# Altium schematic symbol library Other.SchLib: 179 symbols (part 3 of 11)
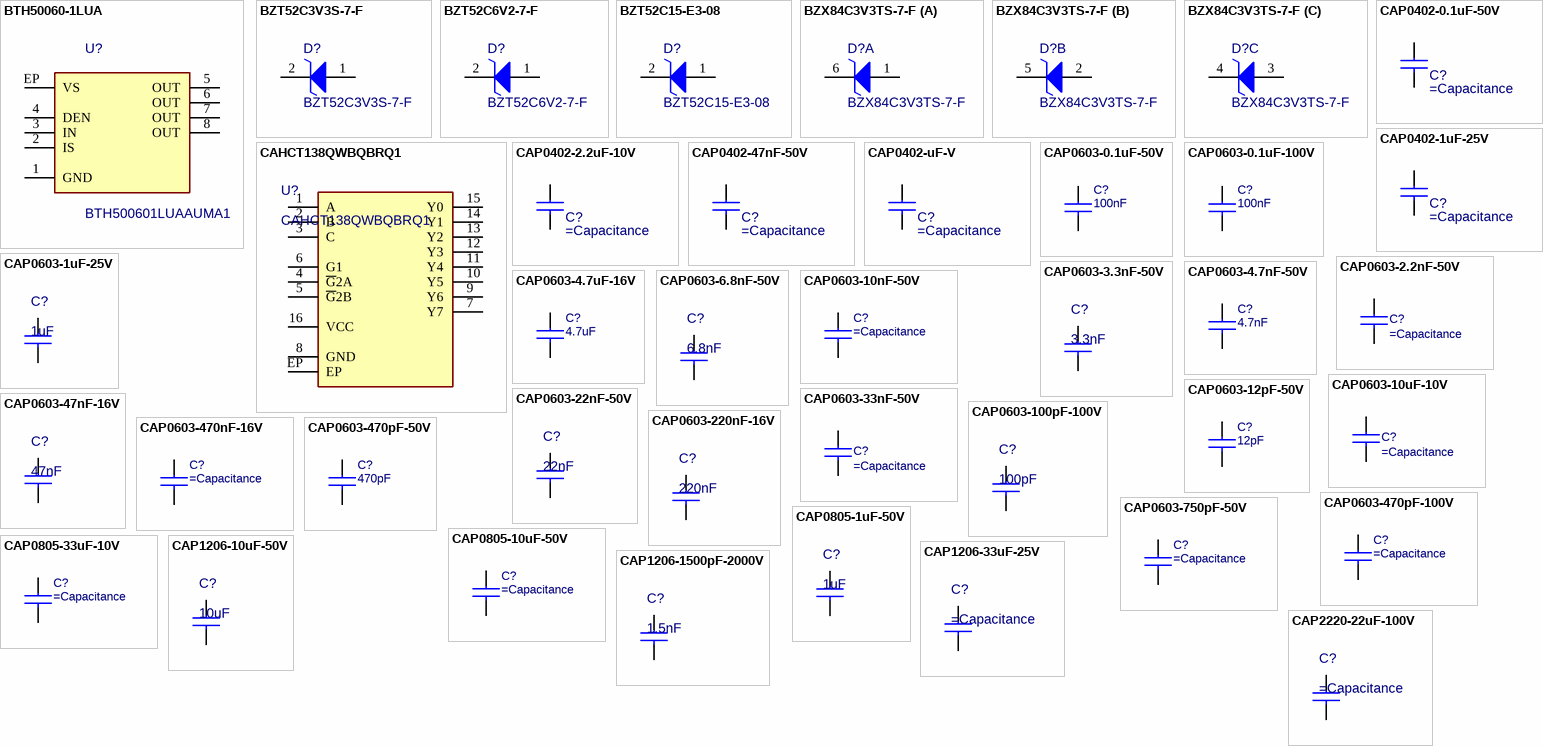
[diagram p10: symbols BTH50060-1LUA to CAP2220-22uF-100V]

## CAP0603-12pF-50V
designator C?, comment 12pF
CAP CER 12PF 50V C0G/NP0 0603; Manufacturer: Walsin Technologies; Manufacturer Part Number: 0603N120J500CT; Dielectric: C0G; Tolerance: 5%; ComponentLink1URL: https://datasheet.ciiva.com/24217/cga3e2x7r1h104k080ad-266045-24217490.pdf; ComponentLink1Description: https://datasheet.ciiva.com/24217/cga3e2x7r1h104k080ad-266045-24217490.pdf; ComponentLink2URL: http://www.mouser.com/ds/2/281/c02e-2905.pdf?src-supplier=Mouser; ComponentLink2Description: http://www.mouser.com/ds/2/281/c02e-2905.pdf?src-supplier=Mouser; ComponentLink3URL: http://search.murata.co.jp/Ceramy/image/img/A01X/G101/ENG/GRM033R71H101MA12-01.pdf?src-supplier=Digi-Key; ComponentLink3Description: http://search.murata.co.jp/Ceramy/image/img/A01X/G101/ENG/GRM033R71H101MA12-01.pdf?src-supplier=Digi-Key; ComponentLink4URL: https://search.murata.co.jp/Ceramy/image/img/A01X/G101/ENG/GRM033R71H101MA12-01.pdf?src-supplier=Digi-Key; ComponentLink4Description: https://search.murata.co.jp/Ceramy/image/img/A01X/G101/ENG/GRM033R71H101MA12-01.pdf?src-supplier=Digi-Key; ComponentLink5URL: http://www.mouser.com/ds/2/212/KEM_C1003_C0G_SMD-1101588.pdf?src-supplier=Mouser; ComponentLink5Description: http://www.mouser.com/ds/2/212/KEM_C1003_C0G_SMD-1101588.pdf?src-supplier=Mouser; ComponentLink6URL: https://search.kemet.com/component-edge/download/datasheet/C0603C101M5GACTU.pdf?src-supplier=Digi-Key; ComponentLink6Description: https://search.kemet.com/component-edge/download/datasheet/C0603C101M5GACTU.pdf?src-supplier=Digi-Key; ComponentLink7URL: https://api.kemet.com/component-edge/download/datasheet/C0603C101M5GACTU.pdf?src-supplier=Digi-Key; ComponentLink7Description: https://api.kemet.com/component-edge/download/datasheet/C0603C101M5GACTU.pdf?src-supplier=Digi-Key; Supplier 1: Digi-Key; RoHS: Yes; Category: Ceramic Capacitors; Stock 1: 36453; Pricing 1: 1=0,10000, 10=0,02800, 100=0,01240, 500=0,00886, 1000=0,00696 (USD); Case/Package: 0603; Case Code (Metric): 1608; Case Code (Imperial): 0603; Min Operating Temperature: -55°C; Max Operating Temperature: 125°C; Voltage Rating (DC): 50V; Packaging: Tape and Reel; Capacitance: 12pF; Voltage Rating: 50V; Length: 1.6mm; Depth: 0.8mm; Radiation Hardening: No; REACH SVHC: Unknown; ComponentLink8URL: https://datasheet.ciiva.com/26831/getdatasheetpartid-744794-26831324.pdf?src-supplier=Verical; ComponentLink8Description: https://datasheet.ciiva.com/26831/getdatasheetpartid-744794-26831324.pdf?src-supplier=Verical; Supplier Part Number 1: 1292-1480-1-ND
footprint C0603 (Chip Capacitor, 2-Leads, Body 1.75x0.95mm)
pins: 1, 2

## CAP0603-22nF-50V
designator C?, comment 22nF
CAP CER 0.022UF 50V X7R 0603; Manufacturer: TDK; Manufacturer Part Number: CGA3E2X7R1H223M080AA; Tolerance: 20%; Supplier 1: Digi-Key; RoHS: Yes; Category: Ceramic Capacitors; Stock 1: 8000; Pricing 1: 1=0.10000, 10=0.06000, 50=0.03300, 100=0.02700, 500=0.01924, 1000=0.01512 (USD); Mount: Surface Mount; Case/Package: 0603; Case Code (Metric): 1608; Case Code (Imperial): 0603; Weight: 7.1E-05oz; Min Operating Temperature: -55°C; Max Operating Temperature: 125°C; Package Quantity: 4000; Packaging: Tape and Reel; Capacitance: 22nF; Voltage Rating: 50V; Dielectric: X7R; Voltage Rating (DC): 50V; Series: CGA; Length: 0.063inch; Width: 0.8mm; Height: 0.8mm; Thickness: 0.035inch; Ratings: AEC-Q200; RoHS Compliant: Yes; ComponentLink1URL: http://www.mouser.com/ds/2/400/lcc_automotive_general_en-843974.pdf?src-supplier=Mouser; ComponentLink1Description: http://www.mouser.com/ds/2/400/lcc_automotive_general_en-843974.pdf?src-supplier=Mouser; ComponentLink2URL: https://product.tdk.com/info/en/catalog/datasheets/mlcc_automotive_general_en.pdf?src-supplier=Digi-Key; ComponentLink2Description: https://product.tdk.com/info/en/catalog/datasheets/mlcc_automotive_general_en.pdf?src-supplier=Digi-Key; ComponentLink3URL: https://product.tdk.com/info/en/documents/chara_sheet/CGA3E2X7R1H223M080AA.pdf?src-supplier=Digi-Key; ComponentLink3Description: https://product.tdk.com/info/en/documents/chara_sheet/CGA3E2X7R1H223M080AA.pdf?src-supplier=Digi-Key; ComponentLink4URL: http://product.tdk.com/en/catalog/datasheets/mlcc_automotive_general_en.pdf?src-supplier=Avnet; ComponentLink4Description: http://product.tdk.com/en/catalog/datasheets/mlcc_automotive_general_en.pdf?src-supplier=Avnet; Supplier Part Number 1: 445-12557-1-ND
footprint C0603 (Chip Capacitor, 2-Leads, Body 1.75x0.95mm)
pins: 1, 2

## CAP0603-33nF-50V
designator C?
CAP CER 0.033UF 50V X7R 0603; Manufacturer: Yageo; Manufacturer Part Number: CC0603KPX7R9BB333; Capacitance: 33nF; Tolerance: 10%; Value: 33nF; Supplier: Digikey; Supplier Part Number: 13-CC0603KPX7R9BB333CT-ND; RoHS: Yes; Category: Ceramic Capacitors; Stock: 14880; Pricing: 1=0,1, 10=0,037, 100=0,0211, 1000=0,01333, 2500=0,01141, 5000=0,01026 (USD); Mounting Technology: Surface Mount; Case/Package: 0603; Min Operating Temperature: -55°C; Max Operating Temperature: 125°C; Dielectric: X7R; Packaging: Tape and Reel; Voltage Rating (DC): 50V; Construction: Flat; Length: 1.6mm; Height: 0.8mm; Depth: 0.8mm; Radiation Hardening: No; RoHS Compliant: Yes; Lead Free: Lead Free; Halogen Free: Halogen Free; ComponentLink1URL: https://datasheet.ciiva.com/26862/getdatasheetpartid-403558-26862803.pdf?src-supplier=Verical; ComponentLink1Description: https://datasheet.ciiva.com/26862/getdatasheetpartid-403558-26862803.pdf?src-supplier=Verical; Supplier 1: Digikey; Supplier Part Number 1: 13-CC0603KPX7R9BB333CT-ND
footprint C0603 (Footprint not found)
pins: 1, 2

## CAP0603-47nF-16V
designator C?, comment 47nF
CAP CER 0.047UF 16V X7R 0603; Manufacturer: Taiyo Yuden; Manufacturer Part Number: EMK107B7473KA-T; Tolerance: 10%; Supplier 1: Digi-Key; RoHS: Yes; Category: Ceramic Capacitors; Stock 1: 3295; Pricing 1: 1=0.10000, 10=0.06300, 50=0.03440, 100=0.02820, 500=0.02012, 1000=0.01581 (USD); Mount: Surface Mount; Case/Package: 0603; Number of Pins: 2; Case Code (Imperial): 0603; Case Code (Metric): 1608; Min Operating Temperature: -55°C; Max Operating Temperature: 125°C; Capacitance: 47nF; Voltage Rating: 16V; Packaging: Tape and Reel; Package Quantity: 1; Dielectric: X7R; Termination: SMD/SMT; Voltage Rating (DC): 16V; Series: M; Construction: Flat; Length: 1.6mm; Width: 0.031inch; Height: 0.8mm; Thickness: 0.035inch; Depth: 0.8mm; Radiation Hardening: No; REACH SVHC: No SVHC; Lead Free: Lead Free; RoHS Compliant: Yes; ComponentLink1URL: https://datasheet.ciiva.com/26871/getdatasheetpartid-637536-26871316.pdf?src-supplier=Verical; ComponentLink1Description: https://datasheet.ciiva.com/26871/getdatasheetpartid-637536-26871316.pdf?src-supplier=Verical; ComponentLink2URL: https://datasheet.ciiva.com/132/mlcc-all-e-132568.pdf?src-supplier=Digi-Key; ComponentLink2Description: https://datasheet.ciiva.com/132/mlcc-all-e-132568.pdf?src-supplier=Digi-Key; ComponentLink3URL: https://datasheet.ciiva.com/132/mlcc-all-e-132569.pdf?src-supplier=Digi-Key; ComponentLink3Description: https://datasheet.ciiva.com/132/mlcc-all-e-132569.pdf?src-supplier=Digi-Key; ComponentLink4URL: https://datasheet.ciiva.com/132/mlcc-all-e-132570.pdf?src-supplier=Digi-Key; ComponentLink4Description: https://datasheet.ciiva.com/132/mlcc-all-e-132570.pdf?src-supplier=Digi-Key; ComponentLink5URL: https://datasheet.ciiva.com/15920/cmultilayerceramiccapacitor-15920477.pdf?src-supplier=Onlinecomponents.com; ComponentLink5Description: https://datasheet.ciiva.com/15920/cmultilayerceramiccapacitor-15920477.pdf?src-supplier=Onlinecomponents.com; ComponentLink6URL: https://datasheet.ciiva.com/7975/746258-7975614.pdf?src-supplier=Element14; ComponentLink6Description: https://datasheet.ciiva.com/7975/746258-7975614.pdf?src-supplier=Element14; ComponentLink7URL: https://datasheet.ciiva.com/30071/cmultilayerceramiccapacitor-30071503.pdf?src-supplier=Onlinecomponents.com; ComponentLink7Description: https://datasheet.ciiva.com/30071/cmultilayerceramiccapacitor-30071503.pdf?src-supplier=Onlinecomponents.com; Supplier Part Number 1: 587-1239-1-ND
footprint C0603 (Chip Capacitor, 2-Leads, Body 1.75x0.95mm)
pins: 1, 2

## CAP0603-100pF-100V
designator C?, comment 100pF
CAP CER 100PF 100V X7R 0603; Manufacturer: Wurth Electronics; Manufacturer Part Number: 885012206102; Tolerance: 10%; Supplier 1: Digi-Key; RoHS: No; Category: Ceramic Capacitors; Stock 1: 2629; Pricing 1: 1=0.10000, 10=0.03700, 100=0.03280, 500=0.02898 (USD); Mount: Surface Mount; Case/Package: 0603; Case Code (Imperial): 0603; Case Code (Metric): 1608; Min Operating Temperature: -55°C; Max Operating Temperature: 125°C; Packaging: Tape and Reel; Capacitance: 100pF; Voltage Rating: 100V; ComponentLink1URL: http://www.farnell.com/datasheets/2546835.pdf?src-supplier=Farnell; ComponentLink1Description: http://www.farnell.com/datasheets/2546835.pdf?src-supplier=Farnell; ComponentLink2URL: https://katalog.we-online.de/pbs/datasheet/885012206102.pdf?src-supplier=Digi-Key; ComponentLink2Description: https://katalog.we-online.de/pbs/datasheet/885012206102.pdf?src-supplier=Digi-Key; Supplier Part Number 1: 732-12235-1-ND
footprint C0603 (Chip Capacitor, 2-Leads, Body 1.75x0.95mm)
pins: 1, 2

## CAP0603-220nF-16V
designator C?, comment 220nF
CAP CER 0.22UF 16V X7R 0603; Manufacturer: Yageo; Manufacturer Part Number: CC0603KRX7R7BB224; Tolerance: 10%; Dissipation Factor: 5%; Insulation Resistance: 10GR; Supplier 1: Digi-Key; RoHS: Yes; Category: Ceramic Capacitors; Stock 1: 338000; Pricing 1: 1=0.10000, 10=0.07000, 50=0.03800, 100=0.03100, 500=0.02214, 1000=0.01739 (USD); Mount: Surface Mount; Case/Package: 0603; Case Code (Metric): 1608; Case Code (Imperial): 0603; Min Operating Temperature: -55°C; Max Operating Temperature: 125°C; Capacitance: 220nF; Dielectric: X7R; Package Quantity: 1; Voltage Rating: 16V; Packaging: Tape and Reel; Voltage: 16V; Voltage Rating (DC): 16V; Series: CC; Construction: Flat; Length: 1.6mm; Width: 0.031inch; Height: 0.8mm; Thickness: 0.035inch; Depth: 0.8mm; Radiation Hardening: No; REACH SVHC: No SVHC; Lead Free: Lead Free; Halogen Free: Halogen Free; RoHS Compliant: Yes; ComponentLink1URL: https://datasheet.ciiva.com/11788/0900766b80d84f1d-11788400.pdf?src-supplier=RSComponents; ComponentLink1Description: https://datasheet.ciiva.com/11788/0900766b80d84f1d-11788400.pdf?src-supplier=RSComponents; ComponentLink2URL: https://datasheet.ciiva.com/176/mlccorderingcode-176608.pdf?src-supplier=Digi-Key; ComponentLink2Description: https://datasheet.ciiva.com/176/mlccorderingcode-176608.pdf?src-supplier=Digi-Key; ComponentLink3URL: https://datasheet.ciiva.com/176/mlccorderingcode-176606.pdf?src-supplier=Digi-Key; ComponentLink3Description: https://datasheet.ciiva.com/176/mlccorderingcode-176606.pdf?src-supplier=Digi-Key; ComponentLink4URL: https://datasheet.ciiva.com/176/mlccorderingcode-176607.pdf?src-supplier=Digi-Key; ComponentLink4Description: https://datasheet.ciiva.com/176/mlccorderingcode-176607.pdf?src-supplier=Digi-Key; Supplier Part Number 1: 311-1426-1-ND
footprint C0603 (Chip Capacitor, 2-Leads, Body 1.75x0.95mm)
pins: 1, 2

## CAP0603-470nF-16V
designator C?
CAP CER 0.47UF 16V X7R 0603; Manufacturer: Yageo; Manufacturer Part Number: CC0603KPX7R7BB474; Material: 4241ConductorMaterial; Tolerance: 10%; Value: 470nF; Supplier: Digikey; Supplier Part Number: 13-CC0603KPX7R7BB474CT-ND; RoHS: Yes; Category: Ceramic Capacitors; Stock: 26229; Pricing: 1=0,14, 10=0,078, 100=0,0476, 1000=0,0319, 2500=0,02802, 5000=0,02568 (USD); Mounting Technology: Surface Mount; Case/Package: 0603; Min Operating Temperature: -55°C; Max Operating Temperature: 125°C; Voltage Rating (DC): 16V; Packaging: Tape and Reel; Dielectric: X7R; Voltage Rating: 16V; Construction: Flat; Length: 1.6mm; Height: 0.8mm; Depth: 0.8mm; Radiation Hardening: No; RoHS Compliant: Yes; Lead Free: Lead Free; Halogen Free: Halogen Free; ComponentLink1URL: https://datasheet.ciiva.com/11586/upy-gphc-x7r-6-3v-to-50v-8-11586297.pdf?src-supplier=Avnet; ComponentLink1Description: https://datasheet.ciiva.com/11586/upy-gphc-x7r-6-3v-to-50v-8-11586297.pdf?src-supplier=Avnet; Supplier 1: Digikey; Supplier Part Number 1: 13-CC0603KPX7R7BB474CT-ND; Capacitance: 470nF
footprint C0603 (Chip Capacitor, 2-Leads, Body 1.75x0.95mm)
pins: 1, 2

## CAP0603-470pF-50V
designator C?, comment 470pF
CAP CER 470PF 50V X7R 0603; Manufacturer: Walsin Technologies; Manufacturer Part Number: 0603B471M500CT; Tolerance: 20%; ComponentLink1URL: https://datasheet.ciiva.com/24217/cga3e2x7r1h104k080ad-266045-24217490.pdf; ComponentLink1Description: https://datasheet.ciiva.com/24217/cga3e2x7r1h104k080ad-266045-24217490.pdf; Supplier 1: Digi-Key; RoHS: Yes; Category: Uncategorized; Stock 1: 18591; Pricing 1: 1=0,10000, 10=0,03300, 100=0,01480, 500=0,01054, 1000=0,00829 (USD); Case/Package: 0603; Min Operating Temperature: -55°C; Max Operating Temperature: 125°C; Capacitance: 470pF; Dielectric: X7R; Packaging: Tape and Reel; Length: 1.6mm; Depth: 0.8mm; ComponentLink2URL: http://components.arrow.com/part/dataview/0323_00656850?src-supplier=Arrow+Europe; ComponentLink2Description: http://components.arrow.com/part/dataview/0323_00656850?src-supplier=Arrow+Europe; Supplier Part Number 1: 1292-1439-1-ND
footprint C0603 (Chip Capacitor, 2-Leads, Body 1.75x0.95mm)
pins: 1, 2

## CAP0603-470pF-100V
designator C?
CAP CER 470PF 100V C0G/NP0 0603; Manufacturer: KEMET; Manufacturer Part Number: C0603C471J1GACTU; Material: 4241ConductorMaterial; Dielectric Material: Ceramic; Tolerance: 5%; Dielectric: C0G; Temperature Coefficient: 30ppm/°C; Dissipation Factor: 0.1%; Supplier: Digikey; Supplier Part Number: 399-C0603C471J1GACTUCT-ND; RoHS: Yes; Category: Ceramic Capacitors; Stock: 120441; Pricing: 1=0,11, 10=0,062, 100=0,0374, 1000=0,02459 (USD); Mounting Technology: Surface Mount; Case/Package: 0603; Pins: 2; Case Code (Metric): 1608; Case Code (Imperial): 0603; Min Operating Temperature: -55°C; Max Operating Temperature: 125°C; Packaging: Tape and Reel; Value: 470pF; Voltage Rating: 100V; Voltage Rating (DC): 100V; Series: C; Package Quantity: 1; Termination: SMD/SMT; Construction: Flat; Length: 1.6mm; Width: 0.031inch; Height: 0.8mm; Thickness: 0.034inch; Depth: 0.8mm; Radiation Hardening: No; RoHS Compliant: Yes; Reach SVHC Compliant: No; Lead Free: Lead Free; Supplier 1: Digikey; Supplier Part Number 1: 399-C0603C471J1GACTUCT-ND; Capacitance: 470pF
footprint C0603 (Chip Capacitor, 2-Leads, Body 1.75x0.95mm)
pins: 1, 2

## CAP0603-750pF-50V
designator C?
CAP CER 750PF 50V C0G/NP0 0603; Manufacturer: KEMET; Manufacturer Part Number: C0603C751J5GACTU; Dielectric Material: Ceramic; Material: 4241ConductorMaterial; Tolerance: 5%; Dielectric: C0G; Temperature Coefficient: 30ppm/°C; Dissipation Factor: 0.1%; Capacitance: 750pF; Supplier: Digikey; Supplier Part Number: 399-C0603C751J5GACTUCT-ND; RoHS: Yes; Category: Ceramic Capacitors; Stock: 9412; Pricing: 1=0,33, 10=0,197, 100=0,1284, 1000=0,09271 (USD); Mounting Technology: Surface Mount,PCB; Case/Package: 0603; Pins: 2; Case Code (Metric): 1608; Case Code (Imperial): 0603; Min Operating Temperature: -55°C; Max Operating Temperature: 125°C; Value: 750pF; Voltage Rating (DC): 50V; Voltage Rating: 50V; Packaging: Tape and Reel; Package Quantity: 1; Termination: SMD/SMT; Series: C0603C; Construction: Flat; Voltage: 50V; Length: 1.6mm; Width: 0.031inch; Height: 0.8mm; Thickness: 0.034inch; Depth: 0.8mm; Lead Pitch: 0.7mm; Radiation Hardening: No; RoHS Compliant: Yes; Lead Free: 5697LeadFree; Reach SVHC Compliant: No; ComponentLink1URL: https://datasheet.ciiva.com/146/docfinderpartnumber-c0603c751j5gactu-146756.pdf?src-supplier=Digikey; ComponentLink1Description: https://datasheet.ciiva.com/146/docfinderpartnumber-c0603c751j5gactu-146756.pdf?src-supplier=Digikey; ComponentLink2URL: https://datasheet.ciiva.com/14603/70095383-14603279.pdf?src-supplier=Allied+Electronics; ComponentLink2Description: https://datasheet.ciiva.com/14603/70095383-14603279.pdf?src-supplier=Allied+Electronics; Supplier 1: Digikey; Supplier Part Number 1: 399-C0603C751J5GACTUCT-ND
footprint C0603 (Chip Capacitor, 2-Leads, Body 1.75x0.95mm)
pins: 1, 2

## CAP0805-1uF-50V
designator C?, comment 1uF
CAP CER 1UF 50V X7R 0805; Manufacturer: Samsung; Manufacturer Part Number: CL21B105KBFNNNG; Material: Ceramic; Tolerance: 10%; Supplier 1: Digi-Key; RoHS: Yes; Category: Ceramic Capacitors; Stock 1: 1529225; Pricing 1: 1=0.12000, 10=0.08900, 50=0.05020, 100=0.04160, 500=0.02918, 1000=0.02416 (USD); Mount: Surface Mount; Case/Package: 0805; Case Code (Metric): 2012; Case Code (Imperial): 0805; Contact Plating: Tin; Min Operating Temperature: -55°C; Max Operating Temperature: 125°C; Packaging: Tape and Reel; Capacitance: 1uF; Voltage Rating: 50V; Package Quantity: 3000; Dielectric: X7R; Termination: Wraparound; Voltage: 50V; Series: CL; Construction: Flat; Length: 2mm; Width: 0.049inch; Thickness: 0.053inch; Depth: 1.25mm; RoHS Compliant: Yes; ComponentLink1URL: https://datasheet.ciiva.com/25733/cl21b105kbfnnng-25733278.pdf?src-supplier=Digi-Key; ComponentLink1Description: https://datasheet.ciiva.com/25733/cl21b105kbfnnng-25733278.pdf?src-supplier=Digi-Key; ComponentLink2URL: https://datasheet.ciiva.com/29199/455898-da-01-en-vs-kondensator-0805-29199201.pdf?src-supplier=Conrad; ComponentLink2Description: https://datasheet.ciiva.com/29199/455898-da-01-en-vs-kondensator-0805-29199201.pdf?src-supplier=Conrad; ComponentLink3URL: https://datasheet.ciiva.com/26310/mlcc-catalogdownload2013-eng-26310125.pdf?src-supplier=Distrelec; ComponentLink3Description: https://datasheet.ciiva.com/26310/mlcc-catalogdownload2013-eng-26310125.pdf?src-supplier=Distrelec; ComponentLink4URL: https://datasheet.ciiva.com/16428/cl05b104kq5nnnc-16428872.pdf?src-supplier=Future+Electronics; ComponentLink4Description: https://datasheet.ciiva.com/16428/cl05b104kq5nnnc-16428872.pdf?src-supplier=Future+Electronics; Supplier Part Number 1: 1276-6470-1-ND
footprint C0805 (Chip Capacitor, 2-Leads, Body 2.00x1.25mm, IPC Medium Density)
pins: 1, 2

## CAP0805-10uF-50V
designator C?
50V 10uF X5R ±10% 0805 Multilayer Ceramic Capacitors MLCC - SMD/SMT ROHS; Manufacturer: Murata; Manufacturer Part Number: GRM21BR61H106KE43L; Manufacturer Lifecycle Status: IN PRODUCTION; Capacitance: 10µF; Value: 10µF; Supplier 1: DigiKey; Supplier Part Number 1: 490-18663-1-ND; Supplier: DigiKey; Supplier Part Number: 490-18663-1-ND; RoHS: Compliant; Category: Ceramic Capacitors; Stock: 1298480; Pricing: 1=0,28, 10=0,165, 50=0,12, 100=0,106, 500=0,08268, 1000=0,07549 (USD); Case/Package: 0805; Dielectric: X5R; Dielectric Material: Ceramic; Height: 1.25mm; Length: 2mm; Lifecycle Status: Production; Material: Ceramic; Max Operating Temperature: 85°C; Min Operating Temperature: -55°C; Mounting Technology: Surface Mount; Number of Terminals: 2; REACH SVHC: Yes; Thickness: 1.25mm; Tolerance: 10%; Voltage Rating: 50V; Voltage Rating (DC): 50V; Width: 1.25mm; ComponentLink1URL: https://datasheet.octopart.com:443/GRM21BR61H106KE43L-Murata-datasheet-155345082.pdf?src-supplier=Newark; ComponentLink1Description: https://datasheet.octopart.com:443/GRM21BR61H106KE43L-Murata-datasheet-155345082.pdf?src-supplier=Newark; ComponentLink2URL: https://datasheet.octopart.com:443/GRM21BR61H106KE43L-Murata-datasheet-141278272.pdf?src-supplier=Geoflip; ComponentLink2Description: https://datasheet.octopart.com:443/GRM21BR61H106KE43L-Murata-datasheet-141278272.pdf?src-supplier=Geoflip; ComponentLink3URL: https://datasheet.octopart.com:443/GRM21BR61H106KE43L-Murata-datasheet-165579666.pdf?src-supplier=TME; ComponentLink3Description: https://datasheet.octopart.com:443/GRM21BR61H106KE43L-Murata-datasheet-165579666.pdf?src-supplier=TME; ComponentLink4URL: https://datasheet.octopart.com:443/GRM21BR61H106KE43L-Murata-datasheet-140707579.pdf?src-supplier=Ciiva; ComponentLink4Description: https://datasheet.octopart.com:443/GRM21BR61H106KE43L-Murata-datasheet-140707579.pdf?src-supplier=Ciiva; ComponentLink5URL: https://datasheet.octopart.com:443/GRM21BR61H106KE43L-Murata-datasheet-138744880.pdf?src-supplier=Ciiva; ComponentLink5Description: https://datasheet.octopart.com:443/GRM21BR61H106KE43L-Murata-datasheet-138744880.pdf?src-supplier=Ciiva; ComponentLink6URL: https://datasheet.octopart.com/GRM21BR61H106KE43L-Murata-datasheet-12515295.pdf; ComponentLink6Description: https://datasheet.octopart.com/GRM21BR61H106KE43L-Murata-datasheet-12515295.pdf; ComponentLink7URL: https://datasheet.octopart.com/GRM21BR61H106KE43L-Murata-datasheet-12510076.pdf; ComponentLink7Description: https://datasheet.octopart.com/GRM21BR61H106KE43L-Murata-datasheet-12510076.pdf; ComponentLink8URL: https://datasheet.octopart.com/GRM21BR61H106KE43L-Murata-datasheet-11978611.pdf; ComponentLink8Description: https://datasheet.octopart.com/GRM21BR61H106KE43L-Murata-datasheet-11978611.pdf; ComponentLink9URL: https://datasheet.octopart.com/GRM21BR61H106KE43L-Murata-datasheet-10025737.pdf; ComponentLink9Description: https://datasheet.octopart.com/GRM21BR61H106KE43L-Murata-datasheet-10025737.pdf; ComponentLink10URL: https://datasheet.octopart.com/GRM21BR61H106KE43L-Murata-datasheet-8819587.pdf; ComponentLink10Description: https://datasheet.octopart.com/GRM21BR61H106KE43L-Murata-datasheet-8819587.pdf; ComponentLink11URL: http://sigma.octopart.com:80/reach_statement/Murata-company-16.pdf?src-supplier=Compliance+Statements; ComponentLink11Description: http://sigma.octopart.com:80/reach_statement/Murata-company-16.pdf?src-supplier=Compliance+Statements
footprint C0805 (Chip Capacitor, 2-Leads, Body 2.00x1.25mm, IPC Medium Density)
pins: 1, 2

## CAP0805-33uF-10V
designator C?
CAP CER 22UF 50V X5R SMD; Manufacturer: TDK; Manufacturer Part Number: C2012X5R1A336M125AC; Capacitance: 33uF; Dielectric Material: Ceramic; Material: 4241ConductorMaterial; Value: 33uF; Voltage Rating: 10V; Tolerance: 20%; Supplier: Digikey; Supplier Part Number: 445-8238-1-ND; RoHS: Yes; Category: Ceramic Capacitors; Stock: 98304; Pricing: 1=0,89, 10=0,565, 100=0,3979, 1000=0,31083 (USD); Mounting Technology: Surface Mount; Case/Package: 0805; Case Code (Metric): 2012; Case Code (Imperial): 0805; Weight: 0.000194oz; Min Operating Temperature: -55°C; Max Operating Temperature: 85°C; Packaging: Tape and Reel; Series: C; Package Quantity: 1; Voltage Rating (DC): 10V; Termination: SMD/SMT; Dielectric: X5R; Length: 2mm; Width: 0.049inch; Height: 1.25mm; Depth: 1.25mm; Thickness: 0.057inch; RoHS Compliant: Yes; Lead Free: Lead Free; Reach SVHC Compliant: No; ComponentLink1URL: https://datasheet.ciiva.com/24216/c2012x5r1a336m125ac-264804-24216541.pdf?src-supplier=Mouser; ComponentLink1Description: https://datasheet.ciiva.com/24216/c2012x5r1a336m125ac-264804-24216541.pdf?src-supplier=Mouser; ComponentLink2URL: https://datasheet.ciiva.com/6259/tdkmlcccaprange-6259263.pdf?src-supplier=Digikey; ComponentLink2Description: https://datasheet.ciiva.com/6259/tdkmlcccaprange-6259263.pdf?src-supplier=Digikey; Supplier 1: Digikey; Supplier Part Number 1: 445-1655-1-ND
footprint C0805 (Chip Capacitor, 2-Leads, Body 2.00x1.25mm, IPC Medium Density)
pins: 1, 2

## CAP1206-10uF-50V
designator C?, comment 10uF
CAP CER 10UF 50V X7R 1206; Manufacturer: Samsung; Manufacturer Part Number: CL31B106KBHNNNE; Tolerance: 10%; Supplier 1: Digi-Key; RoHS: Yes; Category: Ceramic Capacitors; Pricing 1: 1=0.37000, 10=0.25900, 50=0.18120, 100=0.15540, 500=0.11652, 1000=0.09839 (USD); Mount: Surface Mount; Case/Package: 1206; Case Code (Metric): 3216; Case Code (Imperial): 1206; Min Operating Temperature: -55°C; Max Operating Temperature: 125°C; Capacitance: 10uF; Dielectric: X7R; Voltage Rating (DC): 50V; Packaging: Tape and Reel; Voltage Rating: 50V; Length: 0.126inch; Width: 0.063inch; Thickness: 0.071inch; Lead Free: Lead Free; RoHS Compliant: Yes; ComponentLink1URL: http://www.samsungsem.com/kr/support/product-search/mlcc/CL31B106KBHNNNE.jsp?src-supplier=Digi-Key; ComponentLink1Description: http://www.samsungsem.com/kr/support/product-search/mlcc/CL31B106KBHNNNE.jsp?src-supplier=Digi-Key; Supplier Part Number 1: 1276-6767-1-ND
footprint C1206 (Chip Capacitor, 2-Leads, Body 3.20x1.60mm, IPC Medium Density)
pins: 1, 2

## CAP1206-33uF-25V
designator C?
25V 33uF X5R 卤20% 1206 Multilayer Ceramic Capacitors MLCC - SMD/SMT ROHS; Manufacturer: TDK; Manufacturer Part Number: C3216X5R1E336M160AC; Manufacturer Lifecycle Status: PRODUCTION; Value: 33µF; Tolerance: 20%; Supplier 1: DigiKey; Supplier Part Number 1: 445-8046-1-ND; Supplier: DigiKey; Supplier Part Number: 445-8046-1-ND; RoHS: Compliant; Category: Ceramic Capacitors; Stock: 96864; Pricing: 1=1,13, 10=0,706, 50=0,572, 100=0,5234, 500=0,44198, 1000=0,41594 (USD); Case/Package: 1206; Case Code (Imperial): 1206; Case Code (Metric): 3216; China RoHS: Compliant; Composition: Ceramic; Depth: 1.6mm; Dielectric: X5R; Dielectric Material: Ceramic; Height: 1.6mm; Lead Free: Lead Free; Length: 3.2mm; Lifecycle Status: Production; Material: Ceramic; Max Length: 3.4mm; Max Operating Temperature: 85°C; Max Width: 1.8mm; Min Length: 3mm; Min Operating Temperature: -55°C; Min Width: 1.4mm; Mounting Technology: Surface Mount; Number of Terminals: 2; REACH SVHC: Yes; Schedule B: 8532240020, 8532240020|8532240020|8532240020|8532240020|8532240020|8532240020|8532240020|8532240020|8532240020|8532240020|8532240020|8532240020|8532240020|8532240020|8532240020|8532240020|8532240020|8532240020|8532240020|8532240020|8532240020|8532240020|8532240020|85; Termination: SMD/SMT; Thickness: 1.6mm; Voltage Rating: 25V; Voltage Rating (DC): 25V; Weight: 16.187578mg; Width: 1.6mm; ComponentLink1URL: https://datasheet.octopart.com:443/C3216X5R1E336M160AC-TDK-datasheet-175423548.pdf?src-supplier=TME; ComponentLink1Description: https://datasheet.octopart.com:443/C3216X5R1E336M160AC-TDK-datasheet-175423548.pdf?src-supplier=TME; ComponentLink2URL: https://datasheet.octopart.com:443/C3216X5R1E336M160AC-TDK-datasheet-182135025.pdf?src-supplier=TME; ComponentLink2Description: https://datasheet.octopart.com:443/C3216X5R1E336M160AC-TDK-datasheet-182135025.pdf?src-supplier=TME; ComponentLink3URL: https://datasheet.octopart.com:443/C3216X5R1E336M160AC-TDK-datasheet-159617022.pdf?src-supplier=TME; ComponentLink3Description: https://datasheet.octopart.com:443/C3216X5R1E336M160AC-TDK-datasheet-159617022.pdf?src-supplier=TME; ComponentLink4URL: https://datasheet.octopart.com/C3216X5R1E336M160AC-TDK-datasheet-41194876.pdf; ComponentLink4Description: https://datasheet.octopart.com/C3216X5R1E336M160AC-TDK-datasheet-41194876.pdf; ComponentLink5URL: https://datasheet.octopart.com/C-Series-Ceramic-Chip-Capacitors-TDK-datasheet-family-84.pdf; ComponentLink5Description: https://datasheet.octopart.com/C-Series-Ceramic-Chip-Capacitors-TDK-datasheet-family-84.pdf; ComponentLink6URL: https://datasheet.octopart.com:443/C3216X5R1E336M160AC-TDK-datasheet-151546523.pdf?src-supplier=ODG+(Origin+Data+Global); ComponentLink6Description: https://datasheet.octopart.com:443/C3216X5R1E336M160AC-TDK-datasheet-151546523.pdf?src-supplier=ODG+(Origin+Data+Global); ComponentLink7URL: https://datasheet.octopart.com:443/C3216X5R1E336M160AC-TDK-datasheet-82475248.pdf?src-supplier=Newark; ComponentLink7Description: https://datasheet.octopart.com:443/C3216X5R1E336M160AC-TDK-datasheet-82475248.pdf?src-supplier=Newark; ComponentLink8URL: https://datasheet.octopart.com:443/C3216X5R1E336M160AC-TDK-datasheet-23766614.pdf?src-supplier=Future+Electronics; ComponentLink8Description: https://datasheet.octopart.com:443/C3216X5R1E336M160AC-TDK-datasheet-23766614.pdf?src-supplier=Future+Electronics; ComponentLink9URL: http://sigma.octopart.com:80/rohs_certificate/C-Series-Ceramic-Chip-Capacitors-TDK-family-108.pdf?src-supplier=Compliance+Statements; ComponentLink9Description: http://sigma.octopart.com:80/rohs_certificate/C-Series-Ceramic-Chip-Capacitors-TDK-family-108.pdf?src-supplier=Compliance+Statements; Capacitance: 33µF
footprint C1206 (Chip Capacitor, 2-Leads, Body 3.20x1.60mm, IPC Medium Density)
pins: 1, 2

## CAP1206-1500pF-2000V
designator C?, comment 1.5nF
CAP CER 1500PF 2KV X7R 1206; Manufacturer: Yageo; Manufacturer Part Number: CC1206KKX7RDBB152; Tolerance: 10%; Supplier 1: Digi-Key; RoHS: Yes; Category: Ceramic Capacitors; Stock 1: 1476; Pricing 1: 1=0.35000, 10=0.23700, 50=0.15780, 100=0.13420, 500=0.09472, 1000=0.08288 (USD); Mount: Surface Mount; Case/Package: 1206; Case Code (Imperial): 1206; Case Code (Metric): 3216; Min Operating Temperature: -55°C; Max Operating Temperature: 125°C; Capacitance: 1.5nF; Dielectric: X7R; Packaging: Tape and Reel; Voltage Rating (DC): 2kV; Voltage Rating: 2kV; Termination: SMD/SMT; Resistor Type: Ceramic; Series: CC; Construction: Flat; Length: 3.2mm; Width: 0.063inch; Height: 1.25mm; Depth: 1.6mm; Thickness: 0.057inch; Radiation Hardening: No; RoHS Compliant: Yes; ComponentLink1URL: https://datasheet.ciiva.com/13263/upy-gp-np0-16v-to-50v-8-3714-13263143.pdf?src-supplier=Mouser; ComponentLink1Description: https://datasheet.ciiva.com/13263/upy-gp-np0-16v-to-50v-8-3714-13263143.pdf?src-supplier=Mouser; ComponentLink2URL: https://datasheet.ciiva.com/17435/hv-17435341.pdf?src-supplier=Avnet+Europe; ComponentLink2Description: https://datasheet.ciiva.com/17435/hv-17435341.pdf?src-supplier=Avnet+Europe; Supplier Part Number 1: 311-1972-1-ND
footprint C1206 (Chip Capacitor, 2-Leads, Body 3.20x1.60mm, IPC Medium Density)
pins: 1, 2

## CAP2220-22uF-100V
designator C?
100V 22uF X7S 卤20% 2220 Multilayer Ceramic Capacitors MLCC - SMD/SMT ROHS; Manufacturer: TDK; Manufacturer Part Number: C5750X7S2A226M280KB; Manufacturer Lifecycle Status: PRODUCTION; Capacitance: 22µF; Value: 22µF; Supplier 1: DigiKey; Supplier Part Number 1: 445-C5750X7S2A226M280KBCT-ND; Supplier: DigiKey; Supplier Part Number: 445-C5750X7S2A226M280KBCT-ND; RoHS: Compliant; Category: Ceramic Capacitors; Stock: 105682; Pricing: 1=5,31, 10=3,608, 50=3,2764, 100=3,0974 (USD); Case/Package: 2220; China RoHS: Compliant; Dielectric Material: Ceramic; Height: 2.8mm; Length: 5.7mm; Lifecycle Status: Production; Material: Ceramic; Max Length: 6.1mm; Max Operating Temperature: 125°C; Max Width: 5.4mm; Min Length: 5.3mm; Min Operating Temperature: -55°C; Min Width: 4.6mm; Mounting Technology: Surface Mount; Number of Terminals: 2; REACH SVHC: Yes; Schedule B: 8532240020, 8532240020|8532240020|8532240020|8532240020|8532240020; Voltage Rating: 100V; Voltage Rating (DC): 100V; Width: 5mm; ComponentLink1URL: https://datasheet.octopart.com:443/C5750X7S2A226M280KB-TDK-datasheet-159617022.pdf?src-supplier=IHS; ComponentLink1Description: https://datasheet.octopart.com:443/C5750X7S2A226M280KB-TDK-datasheet-159617022.pdf?src-supplier=IHS; ComponentLink2URL: https://datasheet.octopart.com:443/C5750X7S2A226M280KB-TDK-datasheet-151546522.pdf?src-supplier=TDK; ComponentLink2Description: https://datasheet.octopart.com:443/C5750X7S2A226M280KB-TDK-datasheet-151546522.pdf?src-supplier=TDK; ComponentLink3URL: https://datasheet.octopart.com:443/C5750X7S2A226M280KB-TDK-datasheet-43914167.pdf?src-supplier=Future+Electronics; ComponentLink3Description: https://datasheet.octopart.com:443/C5750X7S2A226M280KB-TDK-datasheet-43914167.pdf?src-supplier=Future+Electronics; ComponentLink4URL: https://datasheet.octopart.com:443/C5750X7S2A226M280KB-TDK-datasheet-182135025.pdf?src-supplier=TME; ComponentLink4Description: https://datasheet.octopart.com:443/C5750X7S2A226M280KB-TDK-datasheet-182135025.pdf?src-supplier=TME
footprint C1206 (Chip Capacitor, 2-Leads, Body 3.20x1.60mm, IPC Medium Density)
pins: 1, 2

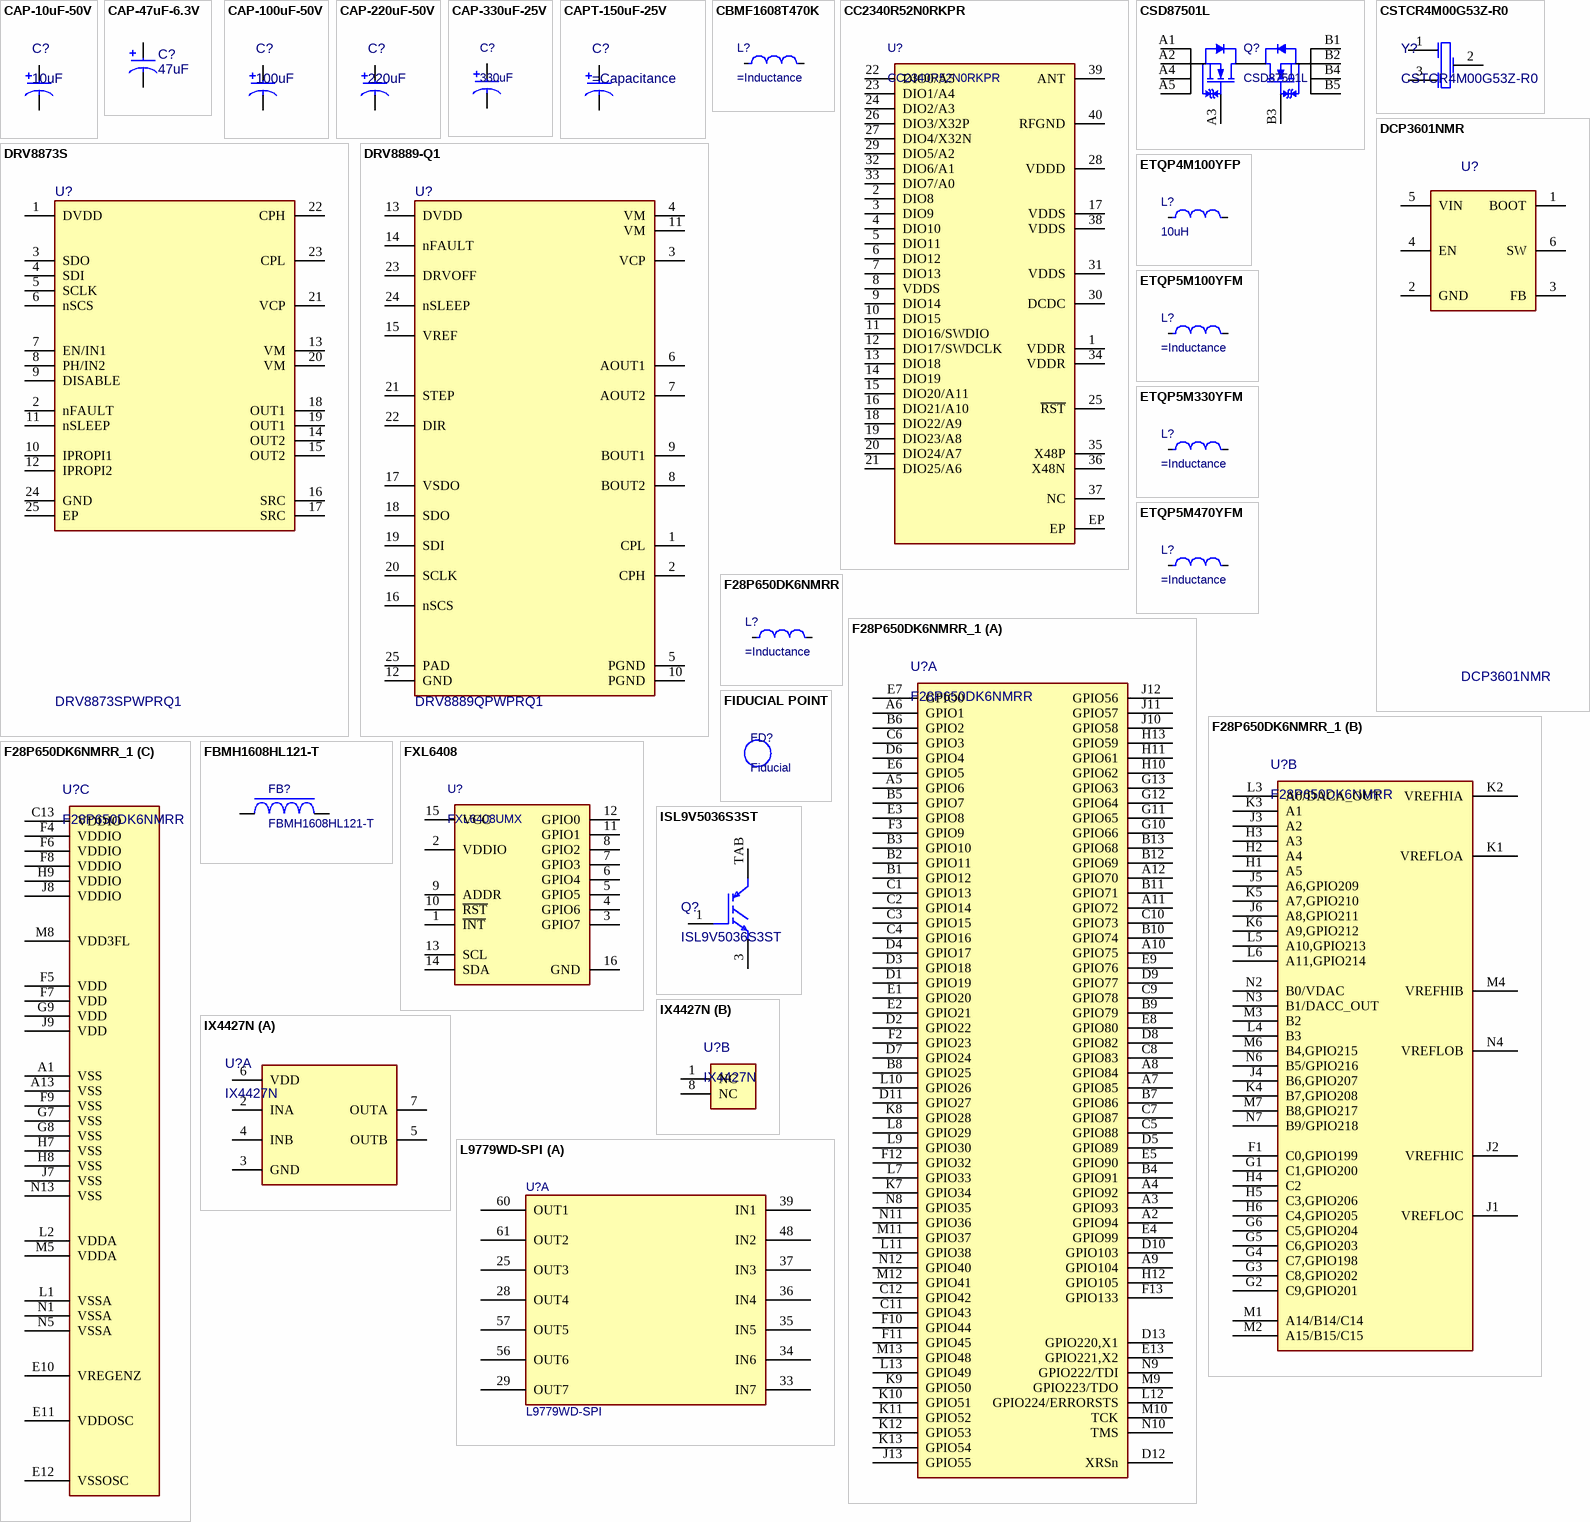
[diagram p2: symbols CAP-10uF-50V to L9779WD-SPI]

## CAP-10uF-50V
designator C?, comment 10uF
CAP 10 UF 20% 50 V; Manufacturer: Wurth Electronics; Manufacturer Part Number: 865080642006; Voltage Rating: 50V; Polarity: Polar; Ripple Current: 95mA; Impedance: 2.8R; Life (Hours): 2000Hour; Supplier 1: Digi-Key; RoHS: Yes; Category: Aluminum Electrolytic Capacitors; Stock 1: 5643; Pricing 1: 1=0.19000, 50=0.16300, 100=0.14200, 250=0.12600, 500=0.11100 (USD); Mount: Surface Mount; Case/Package: Radial; Min Operating Temperature: -55°C; Max Operating Temperature: 105°C; Package Quantity: 1; Packaging: Cut Tape; Ripple Current (AC): 95mA; Tolerance: 20%; Voltage Rating (DC): 50V; Capacitance: 10uF; Diameter: 5mm; Height: 5.5mm; Height - Seated (Max): 0.217inch; REACH SVHC: Unknown; RoHS Compliant: Yes; ComponentLink1URL: http://www.farnell.com/datasheets/1880176.pdf?src-supplier=Farnell; ComponentLink1Description: http://www.farnell.com/datasheets/1880176.pdf?src-supplier=Farnell; ComponentLink2URL: http://katalog.we-online.de/pbs/datasheet/865080642006.pdf?src-supplier=Digi-Key; ComponentLink2Description: http://katalog.we-online.de/pbs/datasheet/865080642006.pdf?src-supplier=Digi-Key; ComponentLink3URL: http://www.farnell.com/datasheets/1880176.pdf?src-supplier=Newark; ComponentLink3Description: http://www.farnell.com/datasheets/1880176.pdf?src-supplier=Newark; ComponentLink4URL: http://www.farnell.com/datasheets/1880176.pdf?src-supplier=Element14; ComponentLink4Description: http://www.farnell.com/datasheets/1880176.pdf?src-supplier=Element14; Supplier Part Number 1: 732-8451-1-ND
footprint CAP_5mm_RADIAL (Capacitor radial package: Diameter 5.00mm)
pins: 1, 2

## CAP-47uF-6.3V
designator C?, comment 47uF
CAP 47 UF 20% 6.3 V; Manufacturer: Wurth Electronics; Manufacturer Part Number: 865080140004; Voltage Rating: 6.3V; Polarity: Polar; Ripple Current: 86mA; Impedance: 1.88R; Life (Hours): 2000Hour; Supplier 1: Digi-Key; RoHS: Yes; Category: Aluminum Electrolytic Capacitors; Stock 1: 1795; Pricing 1: 1=0.19000, 50=0.16000, 100=0.13900, 250=0.12400, 500=0.10800, 1000=0.10300 (USD); Mount: Surface Mount; Case/Package: Radial; Min Operating Temperature: -55°C; Max Operating Temperature: 105°C; Package Quantity: 2000; Packaging: Cut Tape; Ripple Current (AC): 86mA; Tolerance: 20%; Voltage Rating (DC): 6.3V; Diameter: 4mm; Height: 5.5mm; Height - Seated (Max): 0.217inch; REACH SVHC: Unknown; RoHS Compliant: Yes; ComponentLink1URL: http://www.farnell.com/datasheets/1880087.pdf?src-supplier=Farnell; ComponentLink1Description: http://www.farnell.com/datasheets/1880087.pdf?src-supplier=Farnell; ComponentLink2URL: http://katalog.we-online.de/pbs/datasheet/865080140004.pdf?src-supplier=Digi-Key; ComponentLink2Description: http://katalog.we-online.de/pbs/datasheet/865080140004.pdf?src-supplier=Digi-Key; ComponentLink3URL: http://www.farnell.com/datasheets/1880087.pdf?src-supplier=Element14; ComponentLink3Description: http://www.farnell.com/datasheets/1880087.pdf?src-supplier=Element14; Supplier Part Number 1: 732-8469-1-ND; Capacitance: 47uF
footprint CAP_4MM_RADIAL (Capacitor radial package: Diameter 4.00mm)
pins: 1, 2

## CAP-100uF-50V
designator C?, comment 100uF
CAP 100 UF 20% 50 V; Manufacturer: Wurth Electronics; Manufacturer Part Number: 865080653016; Voltage Rating: 50V; Polarity: Polar; Ripple Current: 350mA; Impedance: 460mR; Life (Hours): 2000Hour; Supplier 1: Digi-Key; RoHS: Yes; Category: Aluminum Electrolytic Capacitors; Stock 1: 246; Pricing 1: 1=0.58000, 50=0.49600, 100=0.43200, 250=0.38400 (USD); Mount: Surface Mount; Case/Package: Radial; Min Operating Temperature: -55°C; Max Operating Temperature: 105°C; Package Quantity: 500; Packaging: Cut Tape; Ripple Current (AC): 350mA; Tolerance: 20%; Voltage Rating (DC): 50V; Capacitance: 100uF; Diameter: 8mm; Height: 10.5mm; Height - Seated (Max): 0.413inch; REACH SVHC: Unknown; RoHS Compliant: Yes; ComponentLink1URL: http://www.farnell.com/datasheets/1880186.pdf?src-supplier=Farnell; ComponentLink1Description: http://www.farnell.com/datasheets/1880186.pdf?src-supplier=Farnell; ComponentLink2URL: http://www.farnell.com/datasheets/1880186.pdf?src-supplier=Newark; ComponentLink2Description: http://www.farnell.com/datasheets/1880186.pdf?src-supplier=Newark; ComponentLink3URL: http://www.farnell.com/datasheets/1880186.pdf?src-supplier=Element14; ComponentLink3Description: http://www.farnell.com/datasheets/1880186.pdf?src-supplier=Element14; ComponentLink4URL: http://katalog.we-online.de/pbs/datasheet/865080653016.pdf?src-supplier=Digi-Key; ComponentLink4Description: http://katalog.we-online.de/pbs/datasheet/865080653016.pdf?src-supplier=Digi-Key; ComponentLink5URL: https://katalog.we-online.de/pbs/datasheet/865080653016.pdf?src-supplier=Digi-Key; ComponentLink5Description: https://katalog.we-online.de/pbs/datasheet/865080653016.pdf?src-supplier=Digi-Key; Supplier Part Number 1: 732-8461-1-ND
footprint CAP_8MM_RADIAL (Capacitor radial package: Diameter 8.00mm)
pins: 1, 2

## CAP-220uF-50V
designator C?, comment 220uF
CAP ALUM 220UF 20% 50V SMD; Manufacturer: KEMET; Manufacturer Part Number: EDH227M050A9PAA; Supplier 1: Digi-Key; RoHS: Yes; Stock 1: 2058; Pricing 1: 1=0.75000, 10=0.55600, 50=0.44500, 100=0.38140 (USD); RoHS Compliant: No; Supplier Part Number 1: 399-EDH227M050A9PAACT-ND; Capacitance: 220uF; Voltage Rating: 50V; Tolerance: 20%; Min Operating Temperature: -55°C; Max Operating Temperature: 105°C; Case/Package: Radial
footprint CAP_10MM_RADIAL (Capacitor radial package: Diameter 10.00mm)
pins: 1, 2

## CAP-330uF-25V
designator C?, comment 330uF
CAP ALUM 330UF 20% 25V SMD; Manufacturer: Panasonic; Manufacturer Part Number: EEE-TC1E331UP; ESR (Equivalent Series Resistance): 200mR; Ripple Current (AC): 410mA; Supplier 1: Digikey; Supplier Part Number 1: PCE5261CT-ND; Supplier: Digikey; Supplier Part Number: PCE5261CT-ND; RoHS: Yes; Category: Capacitors; Stock: 480; Pricing: 1=1,14, 10=0,739, 50=0,579, 100=0,5298 (USD); Min Operating Temperature: -40°C; Max Operating Temperature: 125°C; Value: 330uF; Voltage Rating: 25V; Packaging: Cut Tape; Voltage Rating (DC): 25V; Diameter: 8mm; Height: 10.2mm; Reach SVHC Compliant: No; RoHS Compliant: Yes; ComponentLink1URL: https://datasheet.octopart.com/EEETC1E331UP-Panasonic-datasheet-66311498.pdf?src-supplier=Newark; ComponentLink1Description: https://datasheet.octopart.com/EEETC1E331UP-Panasonic-datasheet-66311498.pdf?src-supplier=Newark; ComponentLink2URL: http://www.farnell.com/datasheets/2079854.pdf?src-supplier=Element14; ComponentLink2Description: http://www.farnell.com/datasheets/2079854.pdf?src-supplier=Element14; ComponentLink3URL: https://datasheet.octopart.com/EEETC1E331UP-Panasonic-datasheet-150570772.pdf?src-supplier=TME; ComponentLink3Description: https://datasheet.octopart.com/EEETC1E331UP-Panasonic-datasheet-150570772.pdf?src-supplier=TME; Capacitance: 330uF
footprint CAP_8MM_RADIAL (Capacitor radial package: Diameter 8.00mm)
pins: 1, 2

## CAPT-150uF-25V
designator C?
Tantalum Capacitor, Polarized, Tantalum (solid Polymer), 25V, 20% +Tol, 20% -Tol, 150uF, Surface Mount, 2917; Manufacturer: KEMET; Manufacturer Part Number: T521D157M025ATE040; Value: 150µF; ESR (Equivalent Series Resistance): 40mΩ; Leakage Current: 375µA; Ripple Current: 702.5mA; Supplier 1: DigiKey; Supplier Part Number 1: 399-T521D157M025ATE040CT-ND; Supplier: DigiKey; Supplier Part Number: 399-T521D157M025ATE040CT-ND; RoHS: Compliant; Category: Tantalum Capacitors; Stock: 800; Pricing: 1=2,55, 10=1,751, 50=1,4348, 100=1,3371 (USD); Height: 2.8mm; Length: 7.3mm; Lifecycle Status: Production; Max Operating Temperature: 125°C; Min Operating Temperature: -55°C; Mounting Technology: Surface Mount; Number of Terminals: 2; REACH SVHC: Yes; Voltage Rating (DC): 25V; Width: 4.3mm; ComponentLink1URL: https://datasheet.octopart.com:443/T521D157M025ATE040-KEMET-datasheet-184397816.pdf?src-supplier=Newark; ComponentLink1Description: https://datasheet.octopart.com:443/T521D157M025ATE040-KEMET-datasheet-184397816.pdf?src-supplier=Newark; Capacitance: 150µF
footprint CAPT_2917 (Tantalum capacitor SMD package: 7.30x4.30mm)
pins: 1, 2

## CBMF1608T470K
designator L?
Inductor Power Chip Wirewound 47uH 10% 2.52MHz Ferrite 0.14A 3.25Ohm DCR 0603 T/R; Manufacturer: Taiyo Yuden; Manufacturer Part Number: CBMF1608T470K; Current Rating: 50mA; DC Current: 140mA; DC Resistance (DCR): 2.5Ω; Value: 47µH; Number of Circuits: 1; Self Resonant Frequency: 11MHz; ESR: 3.25Ω; Shielding: No; Supplier: DigiKey; Supplier Part Number: 587-1722-1-ND; RoHS: Compliant; Category: Fixed Inductors; Stock: 121922; Pricing: 1=0,16, 10=0,131, 100=0,1079, 1000=0,08875 (USD); Case/Package: 0603; Case Code (Imperial): 0603; Case Code (Metric): 1608; Composition: Wirewound; Core Material: Ferrite; Depth: 1mm; Halogen Free: Halogen Free; Height: 800µm; Height - Seated (Max): 990.6µm; Inductance Tolerance: 10%; Lead Free: Lead Free; Length: 1.6002mm; Lifecycle Status: Production; Max Current Rating: 50mA; Max DC Current: 140mA; Max Length: 1.8mm; Max Operating Temperature: 105°C; Max Saturation Current: 50mA; Max Temperature Rise Current: 140mA; Max Width: 1mm; Military Standard: Not; Min Length: 1.4mm; Min Operating Temperature: -40°C; Min Width: 600µm; Mounting Technology: Surface Mount; Number of Terminals: 2; Radiation Hardening: No; REACH SVHC: Yes; RMS Current (Irms): 140mA; Saturation Current: 50mA; Termination: SMD/SMT; Test Frequency: 2.52MHz; Tolerance: 10%; Width: 800µm; ComponentLink1URL: https://datasheet.octopart.com:443/CBMF1608T470K-Taiyo-Yuden-datasheet-181258718.pdf?src-supplier=Newark; ComponentLink1Description: https://datasheet.octopart.com:443/CBMF1608T470K-Taiyo-Yuden-datasheet-181258718.pdf?src-supplier=Newark; ComponentLink2URL: https://datasheet.octopart.com:443/CBMF1608T470K-Taiyo-Yuden-datasheet-120109.pdf?src-supplier=Farnell; ComponentLink2Description: https://datasheet.octopart.com:443/CBMF1608T470K-Taiyo-Yuden-datasheet-120109.pdf?src-supplier=Farnell; ComponentLink3URL: https://datasheet.octopart.com:443/CBMF1608T470K-Taiyo-Yuden-datasheet-154807662.pdf?src-supplier=Master+Electronics; ComponentLink3Description: https://datasheet.octopart.com:443/CBMF1608T470K-Taiyo-Yuden-datasheet-154807662.pdf?src-supplier=Master+Electronics; ComponentLink4URL: https://datasheet.octopart.com:443/CBMF1608T470K-Taiyo-Yuden-datasheet-141251735.pdf?src-supplier=Taiyo+Yuden+SCT; ComponentLink4Description: https://datasheet.octopart.com:443/CBMF1608T470K-Taiyo-Yuden-datasheet-141251735.pdf?src-supplier=Taiyo+Yuden+SCT; ComponentLink5URL: https://datasheet.octopart.com:443/CBMF1608T470K-Taiyo-Yuden-datasheet-98959855.pdf?src-supplier=Future+Electronics; ComponentLink5Description: https://datasheet.octopart.com:443/CBMF1608T470K-Taiyo-Yuden-datasheet-98959855.pdf?src-supplier=Future+Electronics; ComponentLink6URL: https://datasheet.octopart.com:443/CBMF1608T470K-Taiyo-Yuden-datasheet-62109205.pdf?src-supplier=Electro+Sonic; ComponentLink6Description: https://datasheet.octopart.com:443/CBMF1608T470K-Taiyo-Yuden-datasheet-62109205.pdf?src-supplier=Electro+Sonic; ComponentLink7URL: https://datasheet.octopart.com:443/CBMF1608T470K-Taiyo-Yuden-datasheet-41181422.pdf?src-supplier=Electro+Sonic; ComponentLink7Description: https://datasheet.octopart.com:443/CBMF1608T470K-Taiyo-Yuden-datasheet-41181422.pdf?src-supplier=Electro+Sonic; ComponentLink8URL: https://datasheet.octopart.com/CBMF1608T470K-Taiyo-Yuden-datasheet-17272049.pdf; ComponentLink8Description: https://datasheet.octopart.com/CBMF1608T470K-Taiyo-Yuden-datasheet-17272049.pdf; ComponentLink9URL: https://datasheet.octopart.com:443/CBMF1608T470K-Taiyo-Yuden-datasheet-13714792.pdf?src-supplier=_legacy+Avnet; ComponentLink9Description: https://datasheet.octopart.com:443/CBMF1608T470K-Taiyo-Yuden-datasheet-13714792.pdf?src-supplier=_legacy+Avnet; Supplier 1: DigiKey; Supplier Part Number 1: 587-1722-1-ND; Inductance: 47µH
pins: 1, 2

## CC2340R52N0RKPR
designator U?
SimpleLink™ 32bit Arm® Cortex®-M0+ 2.4GHz wireless MCU with 512kB flash 40-VQFN -40 to 85; Manufacturer: Texas Instruments; Manufacturer Lifecycle Status: ACTIVE; Supplier 1: DigiKey; Supplier Part Number 1: 296-CC2340R52N0RKPRDKR-ND; Supplier: DigiKey; Supplier Part Number: 296-CC2340R52N0RKPRDKR-ND; Manufacturer Part Number: CC2340R52N0RKPR; RoHS: Compliant; Category: RF Receivers, Transceivers; Pricing: 1=2,44, 10=1,81, 25=1,6528, 100=1,4806, 250=1,39848, 500=1,34894, 1000=1,30818 (USD); Case/Package: VQFN; Height: 1mm; Length: 5mm; Lifecycle Status: Production; Pins: 40; Thickness: 900µm; Width: 5mm; ComponentLink1URL: https://sigma.octopart.com:443/169560358/technical_drawing/Texas-Instruments-CC2340R52N0RKPR.pdf?src-supplier=Texas+Instruments; ComponentLink1Description: https://sigma.octopart.com:443/169560358/technical_drawing/Texas-Instruments-CC2340R52N0RKPR.pdf?src-supplier=Texas+Instruments; ComponentLink2URL: https://octopart.com:443/opatz8j6/c1?t=dd9ZbY0txOw28o0nZ2IU_9VWcs24IamySGStmFqIrOK07hB_cZmRwdQLE9PWWcV5q6cAg9F7TXjlX91oSJyYZGUIGXkHzKuWB5WNiVltrdOh1tBtFJSuZ2y7uuQveb546ysDIPSqzLOmrKORNz_XC-E7iTGP9liyWhrmKFumGrQ-mqFWP1Ktgb9zdNACHYvdFMbRpCg4CpymDrIShmAF3jIFrCkrwnCnTllTUwfokCMC4bvjFQyFlPbXIZ4PjrN_hhAGpEmE9IJ5BbiqtXMVSv8oZe82BY6EGq3igrrxe7xglMY06Tyt3L1_0u8IVvaYXBGnExSlWxUf3S8d79Cwrln-KtTcml-eA3pZocen53irTjtJrTCVK5BwmvCFrUHfi_7LixAQ-Q&src-supplier=Texas+Instruments; ComponentLink2Description: https://octopart.com:443/opatz8j6/c1?t=dd9ZbY0txOw28o0nZ2IU_9VWcs24IamySGStmFqIrOK07hB_cZmRwdQLE9PWWcV5q6cAg9F7TXjlX91oSJyYZGUIGXkHzKuWB5WNiVltrdOh1tBtFJSuZ2y7uuQveb546ysDIPSqzLOmrKORNz_XC-E7iTGP9liyWhrmKFumGrQ-mqFWP1Ktgb9zdNACHYvdFMbRpCg4CpymDrIShmAF3jIFrCkrwnCnTllTUwfokCMC4bvjFQyFlPbXIZ4PjrN_hhAGpEmE9IJ5BbiqtXMVSv8oZe82BY6EGq3igrrxe7xglMY06Tyt3L1_0u8IVvaYXBGnExSlWxUf3S8d79Cwrln-KtTcml-eA3pZocen53irTjtJrTCVK5BwmvCFrUHfi_7LixAQ-Q&src-supplier=Texas+Instruments; ComponentLink3URL: https://datasheet.octopart.com:443/CC2340R52N0RKPR-Texas-Instruments-datasheet-187867328.pdf?src-supplier=LCSC; ComponentLink3Description: https://datasheet.octopart.com:443/CC2340R52N0RKPR-Texas-Instruments-datasheet-187867328.pdf?src-supplier=LCSC; ComponentLink4URL: http://sigma.octopart.com:80/conflict_mineral_statement/Texas-Instruments-company-63.pdf?src-supplier=Compliance+Statements; ComponentLink4Description: http://sigma.octopart.com:80/conflict_mineral_statement/Texas-Instruments-company-63.pdf?src-supplier=Compliance+Statements; ComponentLink5URL: http://sigma.octopart.com:80/reach_statement/Texas-Instruments-company-64.pdf?src-supplier=Compliance+Statements; ComponentLink5Description: http://sigma.octopart.com:80/reach_statement/Texas-Instruments-company-64.pdf?src-supplier=Compliance+Statements
pins: 1 VDDR, 2 DIO8, 3 DIO9, 4 DIO10, 5 DIO11, 6 DIO12, 7 DIO13, 8 VDDS, 9 DIO14, 10 DIO15, 11 DIO16/SWDIO, 12 DIO17/SWDCLK, 13 DIO18, 14 DIO19, 15 DIO20/A11, 16 DIO21/A10, 17 VDDS, 18 DIO22/A9, 19 DIO23/A8, 20 DIO24/A7, 21 DIO25/A6, 22 DIO0/A5, 23 DIO1/A4, 24 DIO2/A3, 25 ~{RST}, 26 DIO3/X32P, 27 DIO4/X32N, 28 VDDD, 29 DIO5/A2, 30 DCDC, 31 VDDS, 32 DIO6/A1, 33 DIO7/A0, 34 VDDR, 35 X48P, 36 X48N, 37 NC, 38 VDDS, 39 ANT, 40 RFGND, EP